# EAGLE library part STOTG04E (library kwoo)
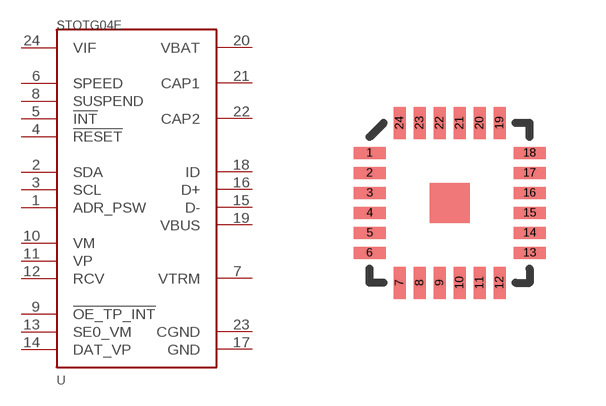
[diagram p25: symbol with the pads of QFN-24; footprint QFN-24]

Designator prefix -

## STOTG04E  [QFN-24]
1  ADR_PSW
2  SDA
3  SCL
4  !RESET
5  !INT
6  SPEED
7  VTRM
8  SUSPEND
9  !OE_TP_INT
10  VM
11  VP
12  RCV
13  SE0_VM
14  DAT_VP
15  D-
16  D+
17  GND
18  ID
19  VBUS
20  VBAT
21  CAP1
22  CAP2
23  CGND
24  VIF

## Footprint QFN-24 (pad centres in mm)
smd 0.8 x 0.3: 1 -2,1.25; 2 -2,0.75; 3 -2,0.25; 4 -2,-0.25; 5 -2,-0.75; 6 -2,-1.25; 13 2,-1.25; 14 2,-0.75; 15 2,-0.25; 16 2,0.25; 17 2,0.75; 18 2,1.25
smd 0.3 x 0.8: 7 -1.25,-2; 8 -0.75,-2; 9 -0.25,-2; 10 0.25,-2; 11 0.75,-2; 12 1.25,-2; 19 1.25,2; 20 0.75,2; 21 0.25,2; 22 -0.25,2; 23 -0.75,2; 24 -1.25,2